# EAGLE library part SWITCH-FUNCTION-SKQUDBE010 (library Discrete)
four dircction and center button http://www.alps.com/WebObjects/catalog.woa/E/HTML/MultiControl/Switch/SKQU/SKQU_list.html
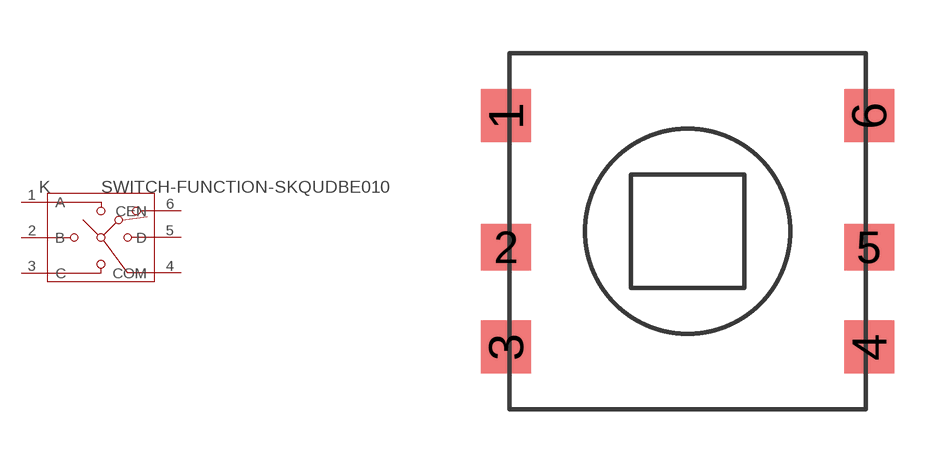
[diagram p13: symbol with the pads of 6P-10X10X8.6MM; footprint 6P-10X10X8.6MM]

Designator prefix K

## SWITCH-FUNCTION-SKQUDBE010  [6P-10X10X8.6MM]
1  A
2  B
3  C
4  COM
5  D
6  CEN

## Footprint 6P-10X10X8.6MM (pad centres in mm)
smd 1.4 x 1.5: 1 -5.1,3.25; 3 -5.1,-3.25; 4 5.1,-3.25; 6 5.1,3.25
smd 1.4 x 1.3: 2 -5.1,-0.45; 5 5.1,-0.45